# Altium footprint library fszhang.PcbLib: 298 footprints (part 4 of 19)
Each footprint in its own frame and in the unit in brackets; x right, y up, seen from the top. Pads: shape width x height; smd on the part's side, far side on the other; paste and mask are expansions set on the pad; w line width, h text height; cw(c..) or ccw(c..) is an arc to the next point about the centre after c.
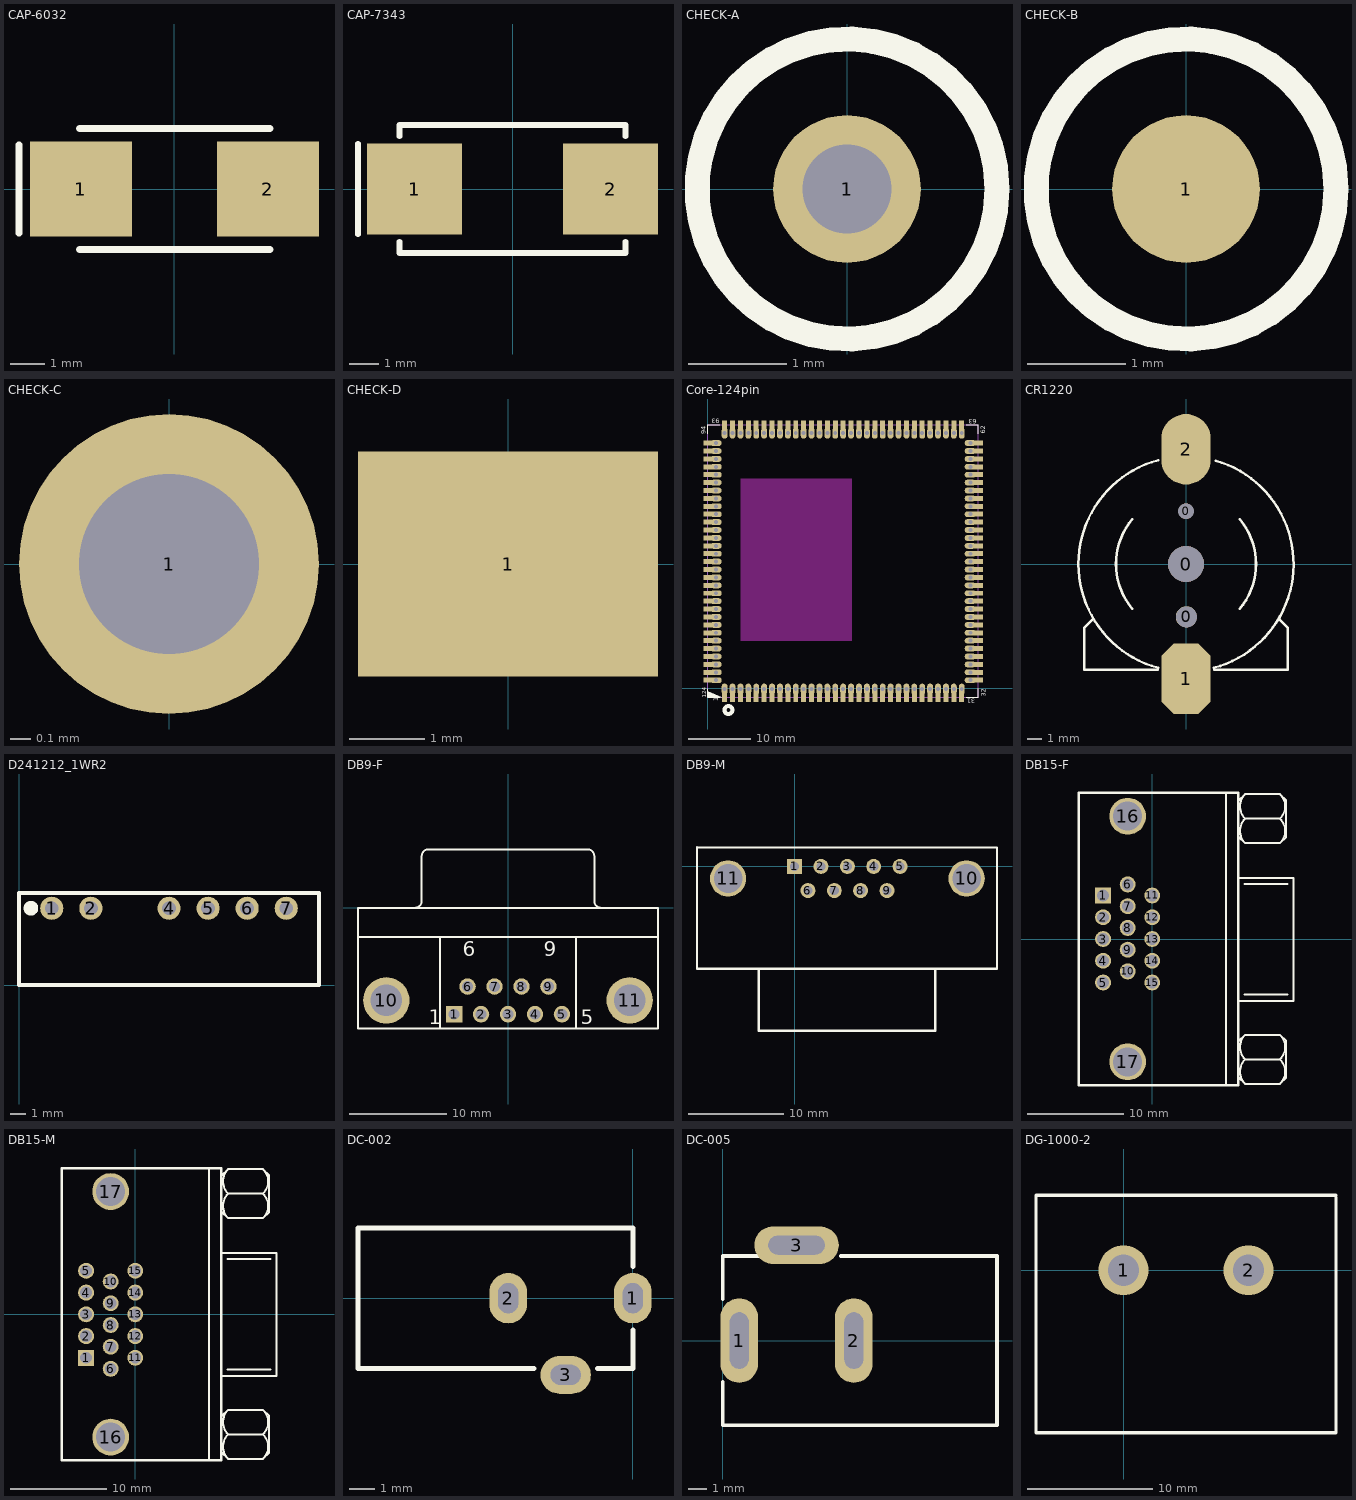
[diagram p3: the footprints below, top view; thin cyan lines are the x and y axes]

## CAP-6032 [mm] "钽电容"
pads (2):
  rect 3x2.8 smd: 1(-2.75,0) 2(2.75,0)
Top Overlay:
  lines w0.2: -4.572,-1.3 -4.572,1.3 ; -2.794,-1.778 2.806,-1.778 ; -2.794,1.778 2.806,1.778
3D body: height 1, standoff 0, extent 2.921,-1.143 3.175,1.143
3D body: height 1, standoff 0, extent -3.175,-1.143 -2.921,1.143
3D body: height 1.3, standoff 0, extent -2.921,-1.651 2.921,1.651

## CAP-7343 [mm] "钽电容"
height 4
pads (2):
  rect 3.2x3.05 smd: 1(-3.302,0) 2(3.302,0)
Top Overlay:
  lines w0.2: -5.207,-1.524 -5.207,1.524 ; -3.81,-1.778 -3.81,-2.159 3.81,-2.159 3.81,-1.778 ; -3.81,1.778 -3.81,2.159 3.81,2.159 3.81,1.778
3D body: height 2.95, standoff 1.5, extent -3.429,-1.905 -2.921,1.905
3D body: height 2.9, standoff 0, extent -3.429,-1.905 3.429,1.905
3D body: height 1.3, standoff 0, extent -3.683,-1.143 -3.429,1.143
3D body: height 1.3, standoff 0, extent 3.429,-1.143 3.683,1.143

## CHECK-A [mm] "Connector; Plug"
height 1.45
pads (1):
  round 1.5 hole 0.9: 1(0,0)
Top Overlay:
  circle w0.254: c0,0 r1.524

## CHECK-B [mm] "Connector; Plug"
height 1.45
pads (1):
  round 1.5 smd: 1(0,0)
Top Overlay:
  circle w0.254: c0,0 r1.524

## CHECK-C [mm] "Connector; Plug"
height 1.45
pads (1):
  round 1.5 hole 0.9: 1(0,0)

## CHECK-D [mm] "Connector; Plug"
height 1.45
pads (1):
  rect 4x3 smd: 1(0,0)

## Core-124pin [mm]
height 0.2
pads (248):
  rect 0.8x1.5 all layers, no hole mask+0.05: 1(2.718,-1.475) 2(3.988,-1.475) 3(5.258,-1.475) 4(6.528,-1.475) 5(7.798,-1.475) 6(9.068,-1.475) 7(10.338,-1.475) 8(11.608,-1.475) 9(12.878,-1.475) 10(14.148,-1.475) 11(15.418,-1.475) 12(16.688,-1.475) 13(17.958,-1.475) 14(19.228,-1.475) 15(20.498,-1.475) 16(21.768,-1.475) 17(23.038,-1.475) 18(24.308,-1.475) 19(25.578,-1.475) 20(26.848,-1.475) 21(28.118,-1.475) 22(29.388,-1.475) 23(30.658,-1.475) 24(31.928,-1.475) 25(33.198,-1.475) 26(34.468,-1.475) 27(35.738,-1.475) 28(37.008,-1.475) 29(38.278,-1.475) 30(39.548,-1.475) 31(40.818,-1.475) 63(40.818,42.273) 64(39.548,42.273) 65(38.278,42.273) 66(37.008,42.273) 67(35.738,42.273) 68(34.468,42.273) 69(33.198,42.273) 70(31.928,42.273) 71(30.658,42.273) 72(29.388,42.273) 73(28.118,42.273) 74(26.848,42.273) 75(25.578,42.273) 76(24.308,42.273) 77(23.038,42.273) 78(21.768,42.273) 79(20.498,42.273) 80(19.228,42.273) 81(17.958,42.273) 82(16.688,42.273) 83(15.418,42.273) 84(14.148,42.273) 85(12.878,42.273) 86(11.608,42.273) 87(10.338,42.273) 88(9.068,42.273) 89(7.798,42.273) 90(6.528,42.273) 91(5.258,42.273) 92(3.988,42.273) 93(2.718,42.273)
  oval 0.94x1.8 hole 0.635 mask+0.05: 1(2.718,-0.175) 2(3.988,-0.175) 3(5.258,-0.175) 4(6.528,-0.175) 5(7.798,-0.175) 6(9.068,-0.175) 7(10.338,-0.175) 8(11.608,-0.175) 9(12.878,-0.175) 10(14.148,-0.175) 11(15.418,-0.175) 12(16.688,-0.175) 13(17.958,-0.175) 14(19.228,-0.175) 15(20.498,-0.175) 16(21.768,-0.175) 17(23.038,-0.175) 18(24.308,-0.175) 19(25.578,-0.175) 20(26.848,-0.175) 21(28.118,-0.175) 22(29.388,-0.175) 23(30.658,-0.175) 24(31.928,-0.175) 25(33.198,-0.175) 26(34.468,-0.175) 27(35.738,-0.175) 28(37.008,-0.175) 29(38.278,-0.175) 30(39.548,-0.175) 31(40.818,-0.175) 63(40.818,40.973) 64(39.548,40.973) 65(38.278,40.973) 66(37.008,40.973) 67(35.738,40.973) 68(34.468,40.973) 69(33.198,40.973) 70(31.928,40.973) 71(30.658,40.973) 72(29.388,40.973) 73(28.118,40.973) 74(26.848,40.973) 75(25.578,40.973) 76(24.308,40.973) 77(23.038,40.973) 78(21.768,40.973) 79(20.498,40.973) 80(19.228,40.973) 81(17.958,40.973) 82(16.688,40.973) 83(15.418,40.973) 84(14.148,40.973) 85(12.878,40.973) 86(11.608,40.973) 87(10.338,40.973) 88(9.068,40.973) 89(7.798,40.973) 90(6.528,40.973) 91(5.258,40.973) 92(3.988,40.973) 93(2.718,40.973)
  oval 1.8x0.94 hole 0.635 mask+0.05: 32(42.192,1.27) 33(42.192,2.54) 34(42.192,3.81) 35(42.192,5.08) 36(42.192,6.35) 37(42.192,7.62) 38(42.192,8.89) 39(42.192,10.16) 40(42.192,11.43) 41(42.192,12.7) 42(42.192,13.97) 43(42.192,15.24) 44(42.192,16.51) 46(42.192,19.05) 47(42.192,20.32) 48(42.192,21.59) 49(42.192,22.86) 50(42.192,24.13) 51(42.192,25.4) 52(42.192,26.67) 53(42.192,27.94) 54(42.192,29.21) 55(42.192,30.48) 56(42.192,31.75) 57(42.192,33.02) 58(42.192,34.29) 59(42.192,35.56) 60(42.192,36.83) 61(42.192,38.1) 62(42.192,39.37) 94(1.346,39.37) 95(1.344,38.1) 96(1.344,36.83) 97(1.344,35.56) 98(1.344,34.29) 99(1.344,33.02) 100(1.344,31.75) 101(1.344,30.48) 102(1.344,29.21) 103(1.344,27.94) 104(1.344,26.67) 105(1.344,25.4) 106(1.344,24.13) 107(1.344,22.86) 108(1.344,21.59) 109(1.344,20.32) 110(1.344,19.05) 111(1.344,17.78) 112(1.344,16.51) 113(1.344,15.24) 114(1.344,13.97) 115(1.344,12.7) 116(1.344,11.43) 117(1.344,10.16) 118(1.344,8.89) 119(1.344,7.62) 120(1.344,6.35) 121(1.344,5.08) 122(1.344,3.81) 123(1.344,2.54) 124(1.344,1.27)
  rect 1.5x0.8 all layers, no hole mask+0.05: 32(43.489,1.27) 33(43.489,2.54) 34(43.489,3.81) 35(43.489,5.08) 36(43.489,6.35) 37(43.489,7.62) 38(43.489,8.89) 39(43.489,10.16) 40(43.489,11.43) 41(43.489,12.7) 42(43.489,13.97) 43(43.489,15.24) 44(43.489,16.51) 45(43.489,17.78) 46(43.489,19.05) 47(43.489,20.32) 48(43.489,21.59) 49(43.489,22.86) 50(43.489,24.13) 51(43.489,25.4) 52(43.489,26.67) 53(43.489,27.94) 54(43.489,29.21) 55(43.489,30.48) 56(43.489,31.75) 57(43.489,33.02) 58(43.489,34.29) 59(43.489,35.56) 60(43.489,36.83) 61(43.489,38.1) 62(43.489,39.37) 94(0.049,39.37) 95(0.049,38.1) 96(0.049,36.83) 97(0.049,35.56) 98(0.049,34.29) 99(0.049,33.02) 100(0.049,31.75) 101(0.049,30.48) 102(0.049,29.21) 103(0.049,27.94) 104(0.049,26.67) 105(0.049,25.4) 106(0.049,24.13) 107(0.049,22.86) 108(0.049,21.59) 109(0.049,20.32) 110(0.049,19.05) 111(0.049,17.78) 112(0.049,16.51) 113(0.049,15.24) 114(0.049,13.97) 115(0.049,12.7) 116(0.049,11.43) 117(0.049,10.16) 118(0.049,8.89) 119(0.049,7.62) 120(0.049,6.35) 121(0.049,5.08) 122(0.049,3.81) 123(0.049,2.54) 124(0.049,1.27)
  oval 1.8x0.95 hole 0.635 mask+0.05: 45(42.192,17.78)
Top Overlay:
  circle w0.635: c3.328,-3.528 r0.635
  region: 0.023,-1.496 0.023,-0.484 2.261,-1.496 1.034,-1.496
  lines w0.127: 0.023,-0.103 0.023,-1.496 1.93,-1.496 ; 0.023,40.893 0.023,42.285 1.93,42.285 ; 41.577,42.285 43.485,42.285 43.485,40.893 ; 41.58,-1.496 43.487,-1.496 43.487,-0.103
  text "31" at 42.977,-1.703 h0.76
  text "32" at 44.704,-1.424 h0.76
  text "62" at 44.625,40.867 h0.76
  text "63" at 43.254,43.204 h0.76
  text "93" at 1.905,43.28 h0.76
  text "94" at -0.305,40.791 h0.76
  text "1" at 1.702,-2.084 h0.76
  text "124" at -0.229,-1.576 h0.64
Keep-Out Layer:
  board cut-out: 5.334,33.655 23.114,33.655 23.114,7.62 5.334,7.62
Mechanical 15:
  lines w0.127: 0.023,-1.496 43.487,-1.496 43.487,42.285 0.023,42.285 0.023,-1.496

## CR1220 [mm] "钮扣电池"
height 3
pads (5):
  round 2.54 hole 2.54: 0(0,0)
  round 1.1 hole 1.1: 0(0,3.75)
  round 1.5 hole 1.5: 0(0.025,-3.75)
  oct 3.5x5 smd: 1(0,-8.128)
  oval 3.5x5 smd: 2(0,8.128)
Top Overlay:
  lines w0.178: -6.6,-3.9 -7.2,-4.5 -7.2,-7.5 -2,-7.5 ; -3.815,-3.169 cw(c0,0) -3.812,3.172 ; -1.963,-7.363 cw(c0,0) -7.62,0 cw(c0,0) -1.963,7.363 ; 1.963,-7.363 ccw(c0,0) 2.093,7.327 ; 2,-7.5 7.2,-7.5 7.2,-4.5 6.625,-3.925 ; 3.81,-3.175 ccw(c0,0) 3.812,3.172

## D241212_1WR2 [mm]
pads (6):
  round 1.5 hole 0.9: 1(2.13,5) 2(4.67,5) 4(9.75,5) 5(12.29,5) 6(14.83,5) 7(17.37,5)
Top Overlay:
  circle w0.5: c0.776,5 r0.224
  lines w0.254: 0,0 0,6 19.5,6 19.5,0 0,0

## DB9-F [mm] "DB9母座"
height 12.75
pads (11):
  rect 1.69x1.69 hole 1.09: 1(-5.54,-10.92)
  round 1.69 hole 1.09: 2(-2.77,-10.92) 3(0,-10.92) 4(2.77,-10.92) 5(5.54,-10.92) 6(-4.155,-8.08) 7(-1.385,-8.08) 8(1.385,-8.08) 9(4.155,-8.08)
  round 4.76 hole 3.26: 10(-12.495,-9.5) 11(12.495,-9.5)
Top Overlay:
  lines w0.2: -15.4,-3 15.4,-3 ; -9.56,0.005 ccw(c-9.56,0.7) -8.865,0.7 -8.865,5.3 ; -8.86,5.305 cw(c-8.165,5.305) -8.165,6 8.165,6 cw(c8.165,5.305) 8.86,5.305 ; -7,-12.4 -7,-3 ; 7,-12.4 7,-3 ; 8.865,5.3 8.865,0.7 ccw(c9.56,0.7) 9.56,0.005 ; -15.4,-12.4 -15.4,0 15.4,0 15.4,-12.4 -15.4,-12.4
  text "1" at -8.128,-11.938 h1.5
  text "5" at 7.493,-11.938 h1.5
  text "9" at 3.655,-4.975 h1.5
  text "6" at -4.655,-4.975 h1.5

## DB9-M [mil] "DB9公座"
height 393.7
pads (11):
  rect 62x62 hole 38: 1(0,0)
  round 62 hole 38: 2(109,0) 3(218,0) 4(327,0) 5(436,0) 6(55,-100) 7(164,-100) 8(273,-100) 9(382,-100)
  round 150 hole 118.11: 10(711,-50) 11(-275,-50)
Top Overlay:
  lines w8: -403.54,78.74 836.61,78.74 836.61,-423.23
  lines w10: -403.54,78.74 -403.54,-423.23 836.61,-423.23 ; -147.64,-425 -147.64,-679.13 580.71,-679.13 580.71,-425
3D body: height 393.7, standoff 0, extent -405,-425 835,75
3D body: height 314.96, standoff 0, extent -145,-680 580,-425

## DB15-F [mil] "VGAĸ"
height 393.7
pads (17):
  rect 65x65 hole 48: 1(-200,177.16)
  round 65 hole 48: 2(-200,88.58) 3(-200,0) 4(-200,-88.58) 5(-200,-177.16) 6(-100,222.17) 7(-100,133.58) 8(-100,45) 9(-100,-43.58) 10(-100,-132.16) 11(0,177.16) 12(0,88.58) 13(0,0) 14(0,-88.58) 15(0,-177.16)
  round 150 hole 118.11: 16(-100,500) 17(-100,-500)
Top Overlay:
  lines w8: 300,-595 300,596.25 ; 350,-251.67 575,-251.67 575,248.33 350,248.33 ; 353.33,-565 378.33,-590 520,-590 545,-565 545,-415 520,-390 378.33,-390 353.33,-415 ; 353.33,415 378.33,390 520,390 545,415 545,565 520,590 378.33,590 353.33,565 ; 375,-226.67 550,-226.67 ; 375,223.33 550,223.33 ; 378.25,-590.09 cw(c428.33,-540) 378.25,-489.91 ; 378.25,-490.09 cw(c428.33,-440) 378.25,-389.91 ; 378.25,389.91 cw(c428.33,440) 378.25,490.09 ; 378.25,489.91 cw(c428.33,540) 378.25,590.09 ; 378.33,-490 520,-490 ; 378.33,490 520,490 ; 520.09,-590.09 ccw(c470,-540) 520.09,-489.91 ; 520.09,-490.09 ccw(c470,-440) 520.09,-389.91 ; 520.09,389.91 ccw(c470,440) 520.09,490.09 ; 520.09,489.91 ccw(c470,540) 520.09,590.09
  lines w10: -300,-595 350,-595 350,595 -300,595 -300,-595

## DB15-M [mil] "VGA公"
height 393.7
pads (17):
  rect 65x65 hole 48: 1(-200,-177.16)
  round 65 hole 48: 2(-200,-88.58) 3(-200,0) 4(-200,88.58) 5(-200,177.16) 6(-100,-222) 7(-100,-132.16) 8(-100,-43.58) 9(-100,45) 10(-100,133.58) 11(0,-177.16) 12(0,-88.58) 13(0,0) 14(0,88.58) 15(0,177.16)
  round 150 hole 118.11: 16(-100,-500) 17(-100,500)
Top Overlay:
  lines w8: 300,-596.25 300,595 ; 350,-250.42 575,-250.42 575,249.58 350,249.58 ; 353.33,-563.75 378.33,-588.75 520,-588.75 545,-563.75 545,-413.75 520,-388.75 378.33,-388.75 353.33,-413.75 ; 353.33,416.25 378.33,391.25 520,391.25 545,416.25 545,566.25 520,591.25 378.33,591.25 353.33,566.25 ; 375,-225.42 550,-225.42 ; 375,224.58 550,224.58 ; 378.25,-588.84 cw(c428.33,-538.75) 378.25,-488.66 ; 378.25,-488.84 cw(c428.33,-438.75) 378.25,-388.66 ; 378.25,391.16 cw(c428.33,441.25) 378.25,491.34 ; 378.25,491.16 cw(c428.33,541.25) 378.25,591.34 ; 378.33,-488.75 520,-488.75 ; 378.33,491.25 520,491.25 ; 520.09,-588.84 ccw(c470,-538.75) 520.09,-488.66 ; 520.09,-488.84 ccw(c470,-438.75) 520.09,-388.66 ; 520.09,391.16 ccw(c470,441.25) 520.09,491.34 ; 520.09,491.16 ccw(c470,541.25) 520.09,591.34
  lines w10: -300,-595 350,-595 350,595 -300,595 -300,-595

## DC-002 [mm] "DC母座3.5mm"
height 7.2
pads (3):
  oval 1.5x2 hole 0.8 slot 1.2 at 90 deg: 1(0,0) 2(-4.953,0)
  oval 2x1.5 hole 0.8 slot 1.2 at 0 deg: 3(-2.667,-3.048)
Top Overlay:
  lines w0.2: -3.937,-2.794 -10.922,-2.794 -10.922,2.794 0,2.794 0,1.27 ; -1.397,-2.794 0,-2.794 0,-1.27
3D body: height 7.2, standoff 0, extent -10.922,-2.794 0,2.794

## DC-005 [mm] "DC母座5.5mm"
height 12.75
pads (3):
  oval 2x4.5 hole 1 slot 3 at 90 deg: 1(0.889,0) 2(6.985,0)
  oval 4.5x2 hole 1 slot 3 at 0 deg: 3(3.937,5.08)
Top Overlay:
  lines w0.2: 0.005,-2.2 0.005,-4.5 14.605,-4.5 14.605,4.5 6.305,4.5 ; 0.005,2.2 0.005,4.5 1.905,4.5
3D body: height 11, standoff 0, extent 0,-4.445 14.605,4.445

## DG-1000-2 [mm]
pads (2):
  round 4 hole 2.5: 1(0,0) 2(10,0)
Top Overlay:
  lines w0.254: 17,5.872 17,-13 -7,-13 -7,6 17,6